# Altium schematic symbol library CAP-SMD.SchLib: 1 symbol
Pins are listed as number, name and electrical type; pins without a type are passive.

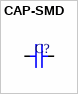
[diagram p0: symbol CAP-SMD]

## CAP-SMD
designator C?  (value not drawn)
pins: 1, 2